# EAGLE library part 687120 (library con-Wurth-6871)
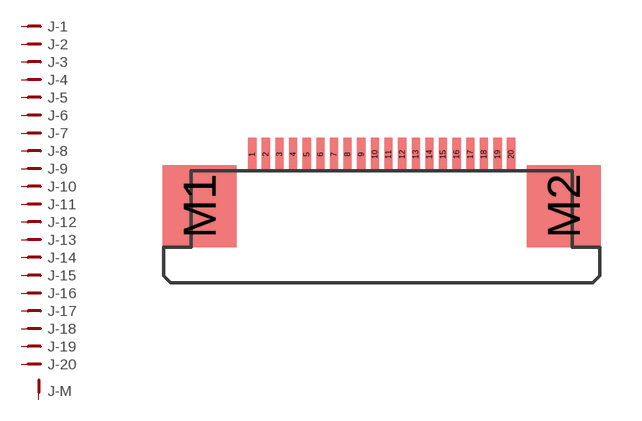
[diagram p1: symbol with the pads of 68712014522; footprint 68712014522]

Designator prefix J; gates -1=PIN -2=PIN -3=PIN -4=PIN -5=PIN -6=PIN -7=PIN -8=PIN -9=PIN -10=PIN -11=PIN -12=PIN -13=PIN -14=PIN -15=PIN -16=PIN -17=PIN -18=PIN -19=PIN -20=PIN -M=PIN-MECH

## 68712014522  [68712014522]
1  -1:1  pas
2  -2:1  pas
3  -3:1  pas
4  -4:1  pas
5  -5:1  pas
6  -6:1  pas
7  -7:1  pas
8  -8:1  pas
9  -9:1  pas
10  -10:1  pas
11  -11:1  pas
12  -12:1  pas
13  -13:1  pas
14  -14:1  pas
15  -15:1  pas
16  -16:1  pas
17  -17:1  pas
18  -18:1  pas
19  -19:1  pas
20  -20:1  pas
M1  -M:1  pas
M2  -M:1  pas

## Footprint 68712014522 (pad centres in mm)
smd 0.3 x 1.2: 1 -4.75,2.2; 2 -4.25,2.2; 3 -3.75,2.2; 4 -3.25,2.2; 5 -2.75,2.2; 6 -2.25,2.2; 7 -1.75,2.2; 8 -1.25,2.2; 9 -0.75,2.2; 10 -0.25,2.2; 11 0.25,2.2; 12 0.75,2.2; 13 1.25,2.2; 14 1.75,2.2; 15 2.25,2.2; 16 2.75,2.2; 17 3.25,2.2; 18 3.75,2.2; 19 4.25,2.2; 20 4.75,2.2
smd 2.7 x 3: M1 -6.68,0.3; M2 6.68,0.3